# Altium integrated library photodiodeconn.IntLib: 2 symbols
Pins are listed as number, name and electrical type; pins without a type are passive.

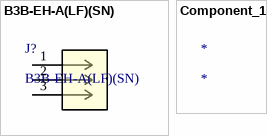
[diagram p0: symbols B3B-EH-A(LF)(SN) to Component_1]

## B3B-EH-A(LF)(SN)
designator J?
No Description Available; Vendor: JST; Built_By: EMA_Kyle; SourceLibrary: JST_2020-07-31; Datasheet: http://www.jst-mfg.com/product/pdf/eng/eEH.pdf; Manufacturer_Part_Number: B3B-EH-A(LF)(SN); Copyright: Copyright (C) 2018 Accelerated Designs. All rights reserved; RefDes: RefDes; Type: DEV
footprint CONN3_B3B-EH-A(LF)(SN)_JST
pins: 1, 2, 3

## Component_1
designator *